# EAGLE library part SENSE.C.M1 (library Bergsonne Tiles)
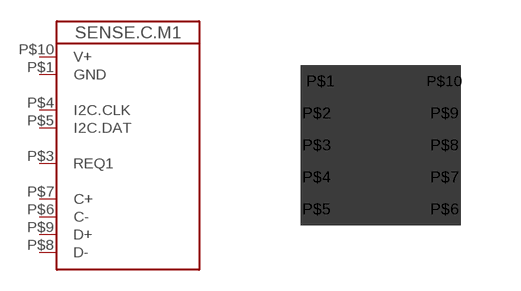
[diagram p3: symbol with the pads of T44-10; footprint T44-10]

Designator prefix -

## SENSE.C.M1  [T44-10]
P$1  GND
P$3  REQ1
P$4  I2C.CLK
P$5  I2C.DAT
P$6  C-
P$7  C+
P$8  D-
P$9  D+
P$10  V+

## Footprint T44-10 (pad centres in mm)
smd 1 x 0.4: P$1 -1.5,1.6
smd 0.8 x 0.4: P$2 -1.6,0.8; P$3 -1.6,0; P$4 -1.6,-0.8; P$5 -1.6,-1.6; P$6 1.6,-1.6; P$7 1.6,-0.8; P$8 1.6,0; P$9 1.6,0.8; P$10 1.6,1.6